# Altium integrated library UUD1E471MNL1GS.IntLib: 1 symbol
Pins are listed as number, name and electrical type; pins without a type are passive.

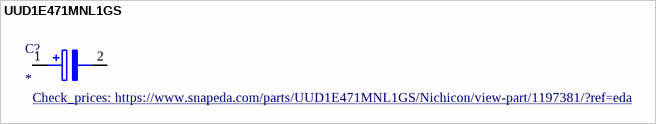
[diagram p0: symbol UUD1E471MNL1GS]

## UUD1E471MNL1GS
designator C?
470ÂµF 25V Aluminum Electrolytic Capacitors Radial, Can - SMD 5000 Hrs @ 105Â°C; MP: UUD1E471MNL1GS; MF: Nichicon; SnapEDA_Link: https://www.snapeda.com/parts/UUD1E471MNL1GS/Nichicon/view-part/1197381/?ref=snap; Arrow_Electronics-Purchase-URL: https://snapeda.com/shop?store=Arrow+Electronics&id=1197381; Arrow_Europe-Purchase-URL: https://snapeda.com/shop?store=Arrow+Europe&id=1197381; Value: *; Availability: Good; Package: Radial Nichicon; DigiKey-Purchase-URL: https://snapeda.com/shop?store=DigiKey&id=1197381; Price: None; Mouser-Purchase-URL: https://snapeda.com/shop?store=Mouser&id=1197381; Check_prices: https://www.snapeda.com/parts/UUD1E471MNL1GS/Nichicon/view-part/1197381/?ref=eda
footprint UD(10X10)
pins: 1 POS (io), 2 NEG (io)